# Altium footprint library Antena.PcbLib: 11 footprints
Each footprint in its own frame and in the unit in brackets; x right, y up, seen from the top. Pads: shape width x height; smd on the part's side, far side on the other; paste and mask are expansions set on the pad; w line width, h text height; cw(c..) or ccw(c..) is an arc to the next point about the centre after c.
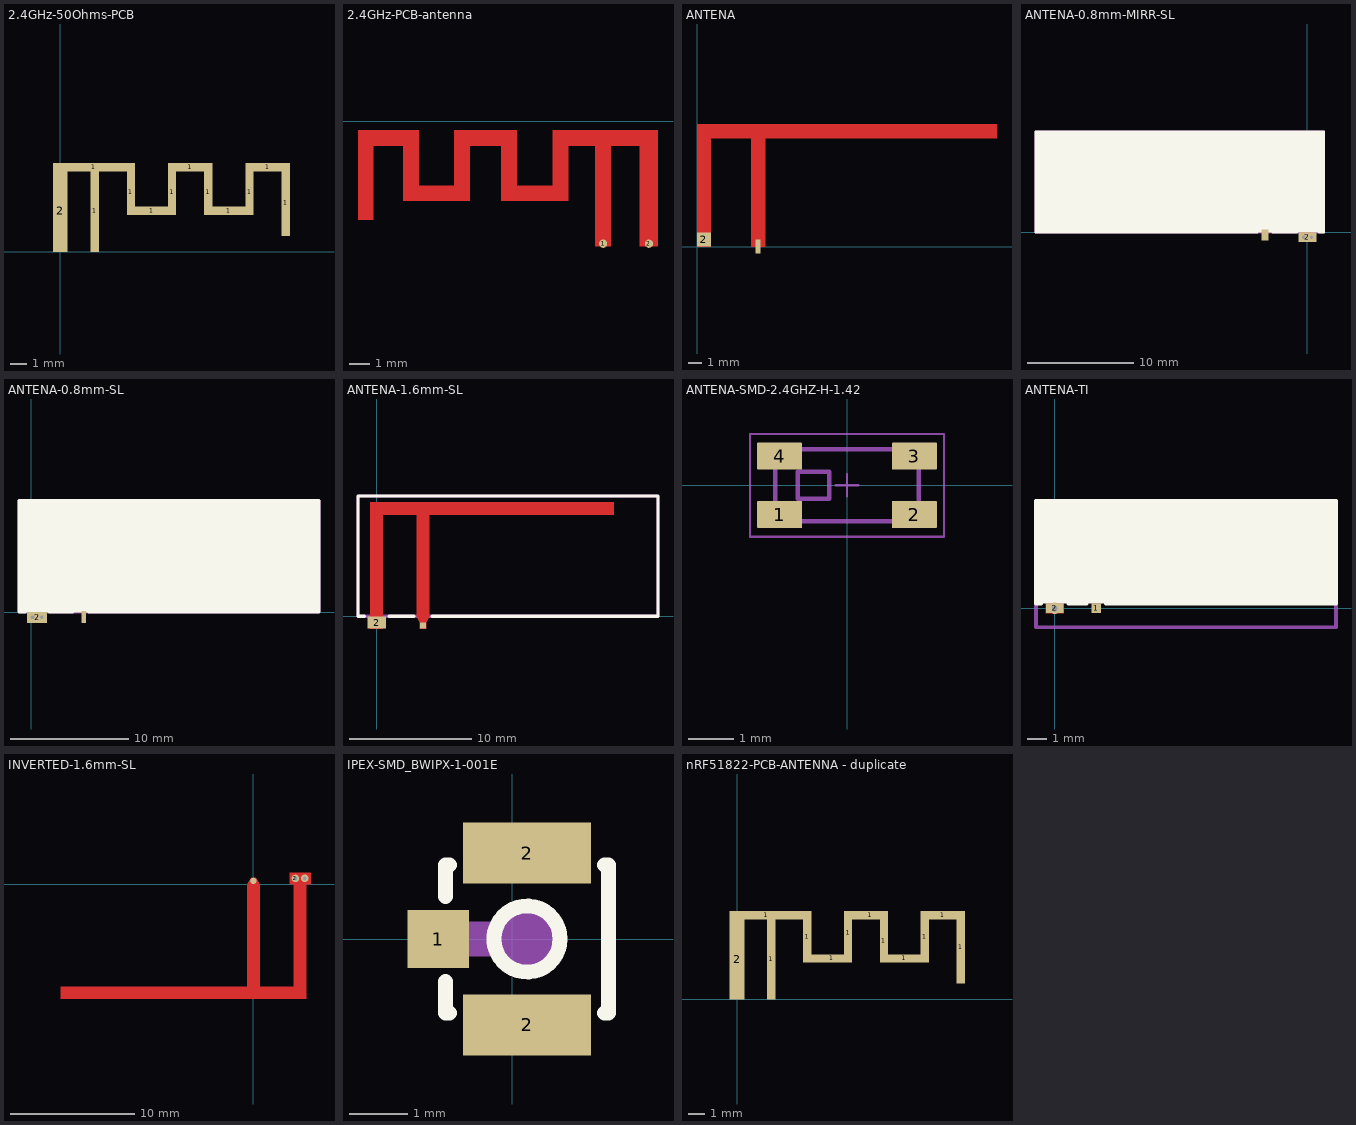
[diagram p0: the footprints below, top view; thin cyan lines are the x and y axes]

## 2.4GHz-50Ohms-PCB [mm]
pads (12):
  rect 5x0.5 smd paste+0 mask+0.102: 1(2.05,5.15)
  rect 0.5x5 smd paste+0 mask+0.102: 1(2.1,2.5)
  rect 0.5x2.74 smd paste+0 mask+0.102: 1(4.3,3.63) 1(6.8,3.63) 1(9,3.63) 1(11.5,3.63)
  rect 2.1x0.5 smd paste+0 mask+0.102: 1(5.55,2.51) 1(10.25,2.51)
  rect 2.7x0.5 smd paste+0 mask+0.102: 1(7.9,5.15) 1(12.6,5.15)
  rect 0.5x4.04 smd paste+0 mask+0.102: 1(13.7,2.98)
  rect 0.9x5 smd paste+0 mask+0.102: 2(0,2.5)

## 2.4GHz-PCB-antenna [mm]
pads (2):
  round 0.4 smd paste+0 mask+0: 1(13.208,-5.969) 2(15.445,-5.969)
Top Layer:
  region: 12.831,-6.083 13.585,-6.083 13.585,-1.183 15.004,-1.183 15.004,-6.083 15.885,-6.083 15.885,-0.429 10.758,-0.429 10.758,-3.129 9.001,-3.129 9.001,-0.429 5.947,-0.429 5.947,-3.129 4.201,-3.129 4.201,-0.429 1.247,-0.429 1.247,-4.808 2.001,-4.808 2.001,-1.183 3.447,-1.183 3.447,-3.883 6.701,-3.883 6.701,-1.183 8.247,-1.183 8.247,-3.883 11.512,-3.883 11.512,-1.183 12.831,-1.183

## ANTENA [mil]
pads (2):
  rect 14x40 smd: 1(175,0)
  rect 40x40 smd: 2(20,20)
Top Layer:
  region: 0,0 40,0 40,311 155,311 155,0 195,0 195,311 860,311 860,350 0,350

## ANTENA-0.8mm-MIRR-SL [mil]
pads (4):
  rect 25.98x40 smd mask+4: 1(-156,-10)
  round 24 hole 12 paste-24 mask+1: 2(-15,-18) 2(15,-18)
  rect 66x36 smd mask+4: 2(0,-18)
Top Layer:
  region: 20,-3.03 20,350 -874.68,350 -874.68,311 -176,311 -176,0 -136,0 -136,311 -20,311 -20,-3.03
Top Overlay:
  pour cut-out: -1000,0 -1000,370 60,370 60,0
  lines w10: -185,0 -1000,0 -1000,370 60,370 60,0 43,0 ; -127,0 -40,0
Bottom Solder:
  region: 74.9,-18 74.9,-18.02 74.92,-18.06 74.94,-18.08 74.98,-18.1 75,-18.1 75.02,-18.1 75.06,-18.08 75.08,-18.06 75.1,-18.02 75.1,-18 75.1,-17.98 75.08,-17.94 75.06,-17.92 75.02,-17.9 75,-17.9 74.98,-17.9 74.94,-17.92 74.92,-17.94 74.9,-17.98
  region: 104.9,-18 104.9,-18.02 104.92,-18.06 104.94,-18.08 104.98,-18.1 105,-18.1 105.02,-18.1 105.06,-18.08 105.08,-18.06 105.1,-18.02 105.1,-18 105.1,-17.98 105.08,-17.94 105.06,-17.92 105.02,-17.9 105,-17.9 104.98,-17.9 104.94,-17.92 104.92,-17.94 104.9,-17.98
Top Courtyard:
  lines w10: -1000,0 -1000,370 60,370 60,0 -1000,0

## ANTENA-0.8mm-SL [mil]
pads (4):
  rect 14x40 smd mask+4: 1(175,-16)
  round 24 hole 12 paste-24 mask+1: 2(5,-18) 2(35,-18)
  rect 66x36 smd mask+4: 2(20,-18)
Top Layer:
  region: 0,0 40,0 40,311 155,311 155,0 195,0 195,311 860,311 860,350 0,350
Top Overlay:
  pour cut-out: -40,0 -40,370 956.4,370 956.4,0
  lines w10: -19,0 -40,0 -40,370 956.4,370 956.4,0 191,0 ; 59,0 139,0
Top Solder:
  region: 4.9,-18.1 35.1,-18.1 35.1,-17.9 4.9,-17.9
Bottom Solder:
  region: 4.9,-18 4.9,-18.02 4.92,-18.06 4.94,-18.08 4.98,-18.1 5,-18.1 5.02,-18.1 5.06,-18.08 5.08,-18.06 5.1,-18.02 5.1,-18 5.1,-17.98 5.08,-17.94 5.06,-17.92 5.02,-17.9 5,-17.9 4.98,-17.9 4.94,-17.92 4.92,-17.94 4.9,-17.98
  region: 34.9,-18 34.9,-18.02 34.92,-18.06 34.94,-18.08 34.98,-18.1 35,-18.1 35.02,-18.1 35.06,-18.08 35.08,-18.06 35.1,-18.02 35.1,-18 35.1,-17.98 35.08,-17.94 35.06,-17.92 35.02,-17.9 35,-17.9 34.98,-17.9 34.94,-17.92 34.92,-17.94 34.9,-17.98
Top Courtyard:
  lines w10: -40,0 -40,370 956.04,370 956.04,0 -40,0

## ANTENA-1.6mm-SL [mil]
pads (2):
  rect 20x20 smd: 1(149,-30)
  rect 60x40 smd: 2(0,-20)
Top Layer:
  region: -20,-40 -20,327 20,327 20,-40
  region: -20,327 -20,366 762,366 762,327
  region: 129,0 139,-20 159,-20 169,0
  region: 139,-40 139,0 159,0 159,-40
  region: 129,0 129,327 169,327 169,0
Top Overlay:
  lines w10: -40,0 -60,0 -60,386 904,386 904,0 178,0 ; 40,0 120,0
Top Courtyard:
  lines w10: -60,0 904,0 904,386 -60,386 -60,0

## ANTENA-SMD-2.4GHZ-H-1.42 [mm] "Antenna, Johanson 2450AT18D0100"
height 1.4
pads (4):
  rrect5% 1x0.6 smd: 1(-1.5,-0.65) 2(1.5,-0.65) 3(1.5,0.65) 4(-1.5,0.65)
Mechanical 9:
  text "1" at -1.575,-1.524 h0.5
  text "2" at 1.447,-1.524 h0.5
  text "3" at 1.397,1.199 h0.5
  text "4" at -1.727,1.194 h0.5
Top Component Outline:
  lines w0.1: -1.6,-0.8 -1.6,0.8 1.6,0.8 1.6,-0.8 -1.6,-0.8 ; -1.1,-0.3 -0.4,-0.3 -0.4,0.3 -1.1,0.3 -1.1,-0.3
Top Courtyard:
  lines w0.05: -2.159,-1.143 2.159,-1.143 2.159,1.143 -2.159,1.143 -2.159,-1.143
Multi-Layer:
  pour cut-out: 1.997,1.589 1.997,-5.091 -1.999,-5.091 -1.999,1.589
Top Designator:
  text ".Designator" at -0.591,0.939 h0.5
Top Component Center:
  lines w0.05: -0.25,0 0.25,0 ; 0,-0.25 0,0.25
3D body: height 1.41, standoff 0, extent -1.1,-0.3 -0.4,0.3
3D body: height 1.4, standoff 0, extent -1.6,-0.8 1.6,0.8

## ANTENA-TI [mm]
pads (2):
  rect 0.5x0.5 smd mask+0.102: 1(2.1,0)
  rect 0.9x0.5 smd mask+0.102: 2(0,0)
via 0,0 diameter 0.6 hole 0.3
Top Layer:
  region: 6.55,4.65 6.55,5.15 9.25,5.15 9.25,4.65
  region: 6.55,2.01 6.55,4.65 7.05,4.65 7.05,2.01
  region: 4.55,2.01 4.55,2.51 6.55,2.51 6.55,2.01
  region: 4.05,2.01 4.05,4.65 4.55,4.65 4.55,2.01
  region: 1.85,0.25 1.85,4.65 2.35,4.65 2.35,0.25
  region: -0.45,4.65 -0.45,5.15 4.55,5.15 4.55,4.65
  region: 0.45,-0.25 0.45,4.65 -0.45,4.65 -0.45,-0.25
  region: 11.25,4.65 11.25,5.15 13.95,5.15 13.95,4.65
  region: 11.25,2.01 11.25,4.65 11.75,4.65 11.75,2.01
  region: 9.25,2.01 9.25,2.51 11.25,2.51 11.25,2.01
  region: 8.75,2.01 8.75,4.65 9.25,4.65 9.25,2.01
  region: 13.45,0.71 13.45,4.65 13.95,4.65 13.95,0.71
Top Overlay:
  pour cut-out: -0.95,5.44 -0.95,0.25 14.25,0.25 14.25,5.45
  lines w0.2: -0.95,5.44 -0.95,0.25 -0.7,0.25 ; -0.95,5.45 14.25,5.45 14.25,0.25 2.6,0.25 ; 0.7,0.25 1.6,0.25
Top Courtyard:
  lines w0.2: -0.95,5.44 -0.95,-0.961 14.25,-0.961 14.25,5.45 -0.95,5.45

## INVERTED-1.6mm-SL [mil]
pads (2):
  round 20 smd paste-20 mask-20: 1(0,10)
  round 24 hole 12 paste-24 mask+1: 2(134,18)
via 164,18 diameter 24 hole 12
Top Layer:
  region: -7,20 7,20 20,0 -20,0
  region: 129,0 169,0 169,-327 129,-327
  region: -20,0 20,0 20,-327 -20,-327
  region: -613,-327 169,-327 169,-366 -613,-366
  region: 116,36 182,36 182,0 116,0
Top Solder:
  region: 164.1,18.1 133.9,18.1 133.9,17.9 164.1,17.9
Bottom Solder:
  region: 5,10 5,10.99 4.24,12.83 2.83,14.24 0.99,15 0,15 -0.99,15 -2.83,14.24 -4.24,12.83 -5,10.99 -5,10 -5,9.01 -4.24,7.17 -2.83,5.76 -0.99,5 0,5 0.99,5 2.83,5.76 4.24,7.17 5,9.01
  region: 164.1,18 164.1,18.02 164.08,18.06 164.06,18.08 164.02,18.1 164,18.1 163.98,18.1 163.94,18.08 163.92,18.06 163.9,18.02 163.9,18 163.9,17.98 163.92,17.94 163.94,17.92 163.98,17.9 164,17.9 164.02,17.9 164.06,17.92 164.08,17.94 164.1,17.98
  region: 134.1,18 134.1,18.02 134.08,18.06 134.06,18.08 134.02,18.1 134,18.1 133.98,18.1 133.94,18.08 133.92,18.06 133.9,18.02 133.9,18 133.9,17.98 133.92,17.94 133.94,17.92 133.98,17.9 134,17.9 134.02,17.9 134.06,17.92 134.08,17.94 134.1,17.98
Multi-Layer:
  pour cut-out: -746,0 209,0.01 209,-386 -746,-386

## IPEX-SMD_BWIPX-1-001E [mm]
pads (3):
  rect 1.05x1 smd paste+0 mask+0.051: 1(-1.274,0)
  rect 2.2x1.05 smd paste+0 mask+0.051: 2(0.251,-1.475) 2(0.251,1.475)
Top Overlay:
  circle w0.254: c0.251,0 r0.568
  lines w0.254: -1.146,-0.731 -1.146,-1.27 -1.08,-1.27 ; -1.146,0.731 -1.146,1.27 -1.08,1.27 ; 1.582,-1.27 1.649,-1.27 1.649,-0.731 1.649,0.731 1.649,1.27 1.582,1.27
Top Courtyard:
  circle w0.2: c-1.527,0 r0.1
  region: 0.782,0 0.782,-0.101 0.705,-0.288 0.562,-0.431 0.375,-0.508 0.274,-0.508 0.215,-0.507 0.102,-0.478 -0.002,-0.424 -0.091,-0.347 -0.126,-0.3 -0.961,-0.3 -0.961,0.3 -0.126,0.3 -0.091,0.347 -0.002,0.424 0.102,0.478 0.215,0.507 0.274,0.508 0.375,0.508 0.562,0.431 0.705,0.288 0.782,0.101
3D body "ipex_pcb.step": height 1.25, standoff 0, extent -1.296,-1.5 1.804,1.5

## nRF51822-PCB-ANTENNA - duplicate [mm]
pads (12):
  rect 4.5x0.5 smd paste+0 mask+0: 1(1.8,5.15)
  rect 0.5x4.9 smd paste+0 mask+0: 1(2.1,2.45)
  rect 0.5x3.14 smd paste+0 mask+0: 1(4.3,3.83) 1(11.5,3.83)
  rect 2.5x0.5 smd paste+0 mask+0: 1(5.8,2.51)
  rect 0.5x2.64 smd paste+0 mask+0: 1(6.8,4.08) 1(9,3.58)
  rect 2.2x0.5 smd paste+0 mask+0: 1(8.15,5.15)
  rect 2x0.5 smd paste+0 mask+0: 1(10.25,2.51)
  rect 1.7x0.5 smd paste+0 mask+0: 1(12.6,5.15)
  rect 0.5x4.44 smd paste+0 mask+0: 1(13.7,3.18)
  rect 0.9x4.9 smd paste+0 mask+0.102: 2(0,2.45)